# EAGLE library part SC52-11EWA (library SC52-11EWA)
Display Modules - LED Character and Numeric Red 7-Segment 1 Character Common Cathode 2V 20mA 0.689" H x 0.488" W x 0.276" D (17.50mm x 12.40mm x 7.00mm) 10-DIP (0.600", 15.24mm) Source: Datasheet <https://www.kingbrightusa.com/images/catalog/SPEC/SC52-11EWA.pdf>
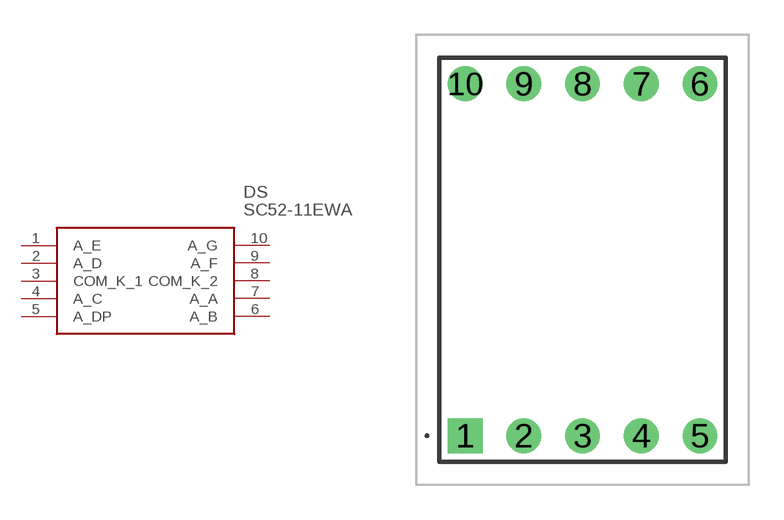
[diagram p0: symbol with the pads of SC5211EWA; footprint SC5211EWA]

Designator prefix DS

## SC52-11EWA (Description: Display Modules - LED Character and Numeric Red 7-Segment 1 Character Common Cathode 2V 20mA 0.689" H x 0.488" W x 0.276" D (17.50mm x 12.40mm x 7.00mm) 10-DIP (0.600", 15.24mm); Height: 7.25mm; Manufacturer_Name: Kingbright; Manufacturer_Part_Number: SC52-11EWA)  [SC5211EWA]
1  A_E
2  A_D
3  COM_K_1
4  A_C
5  A_DP
6  A_B
7  A_A
8  COM_K_2
9  A_F
10  A_G

## Footprint SC5211EWA (pad centres in mm)
SC52-11EWA-4
drill 1 pad 1.5 square: 1 0,0
drill 1 pad 1.5: 2 2.54,0; 3 5.08,0; 4 7.62,0; 5 10.16,0; 6 10.16,15.24; 7 7.62,15.24; 8 5.08,15.24; 9 2.54,15.24; 10 0,15.24